# Altium schematic symbol library schematic.SCHLIB: 1 symbol
Pins are listed as number, name and electrical type; pins without a type are passive.

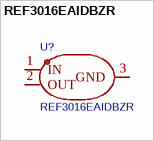
[diagram p0: symbol REF3016EAIDBZR]

## REF3016EAIDBZR
designator U?
Manufacturer: TI(德州仪器); AddInBom: yes; ModelId: 4eed685bb9f4439b846746bc2193f3c0ÂŽ0819f05c4eef4c71ace90d822a990e87; ModelName: SOT-23-3L_L2.9-W1.6-H1.1-LS2.8-P0.95; ModelTransform: 114.173,110.236,0,90,0,0,0,0,0; Symbol: REF3016EAIDBZR; Device: REF3016EAIDBZR; LCSC Part Name: REF3016EAIDBZR; SupplierPart: C54120489; ManufacturerPart: REF3016EAIDBZR; Supplier Footprint: SOT-23-3; JLCPCB Part Class: Extended Part; Supplier: LCSC; ConvertToPcb: yes; FootprintName: SOT-23-3_L3.0-W1.7-P0.95-LS2.9-BR
footprint SOT-23-3_L3.0-W1.7-P0.95-LS2.9-BR
pins: 1 IN, 2 OUT, 3 GND